# Altium schematic symbol library AD8217.SchLib: 1 symbol
Pins are listed as number, name and electrical type; pins without a type are passive.

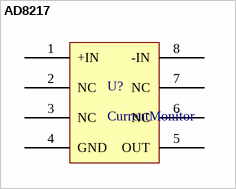
[diagram p0: symbol AD8217]

## AD8217
designator U?, comment CurrentMonitor
footprint AD8217 (CurrentMonitor)
pins: 1 +IN, 2 NC, 3 NC, 4 GND, 5 OUT, 6 NC, 7 NC, 8 -IN